# EAGLE library part NXP1334A (library nxp1334A)
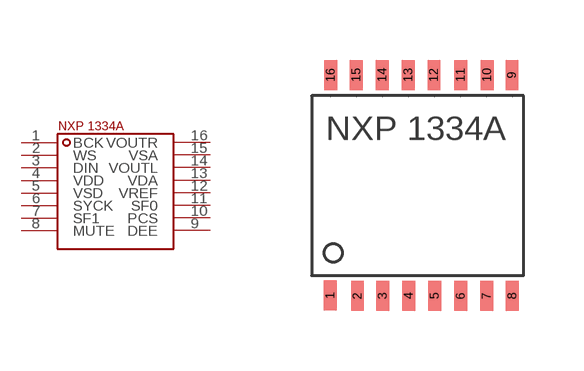
[diagram p0: symbol with the pads of SSOP16; footprint SSOP16]

Designator prefix -

## NXP1334ASMD  [SSOP16]
1  BCK
2  WS
3  DIN
4  VDD
5  VSD
6  SYCK
7  SF1
8  MUTE
9  DEE
10  PCS
11  SF0
12  VREF
13  VDA
14  VOUTL
15  VSA
16  VOUTR

## Footprint SSOP16 (pad centres in mm)
smd 0.32 x 0.75: 1 0.47,-0.5; 2 1.15,-0.51; 3 1.78,-0.51; 4 2.43,-0.51; 5 3.08,-0.51; 6 3.73,-0.51; 7 4.38,-0.51; 8 5.02,-0.51; 9 5.01,5.02; 10 4.39,5.02; 11 3.73,5.02; 12 3.06,5.02; 13 2.42,5.02; 14 1.77,5.02; 15 1.12,5.02; 16 0.48,5.02